# Altium schematic symbol library header_2_plg.SchLib: 1 symbol
Pins are listed as number, name and electrical type; pins without a type are passive.

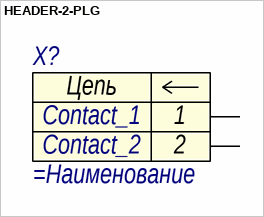
[diagram p0: symbol HEADER-2-PLG]

## HEADER-2-PLG
designator X?
=Описание; Contact_1: Contact_1; Contact_2: Contact_2
pins: 1, 2
text: Цепь